# Altium footprint library Beethoven-clock.PcbLib: 36 footprints (part 2 of 3)
Each footprint in its own frame and in the unit in brackets; x right, y up, seen from the top. Pads: shape width x height; smd on the part's side, far side on the other; paste and mask are expansions set on the pad; w line width, h text height; cw(c..) or ccw(c..) is an arc to the next point about the centre after c.
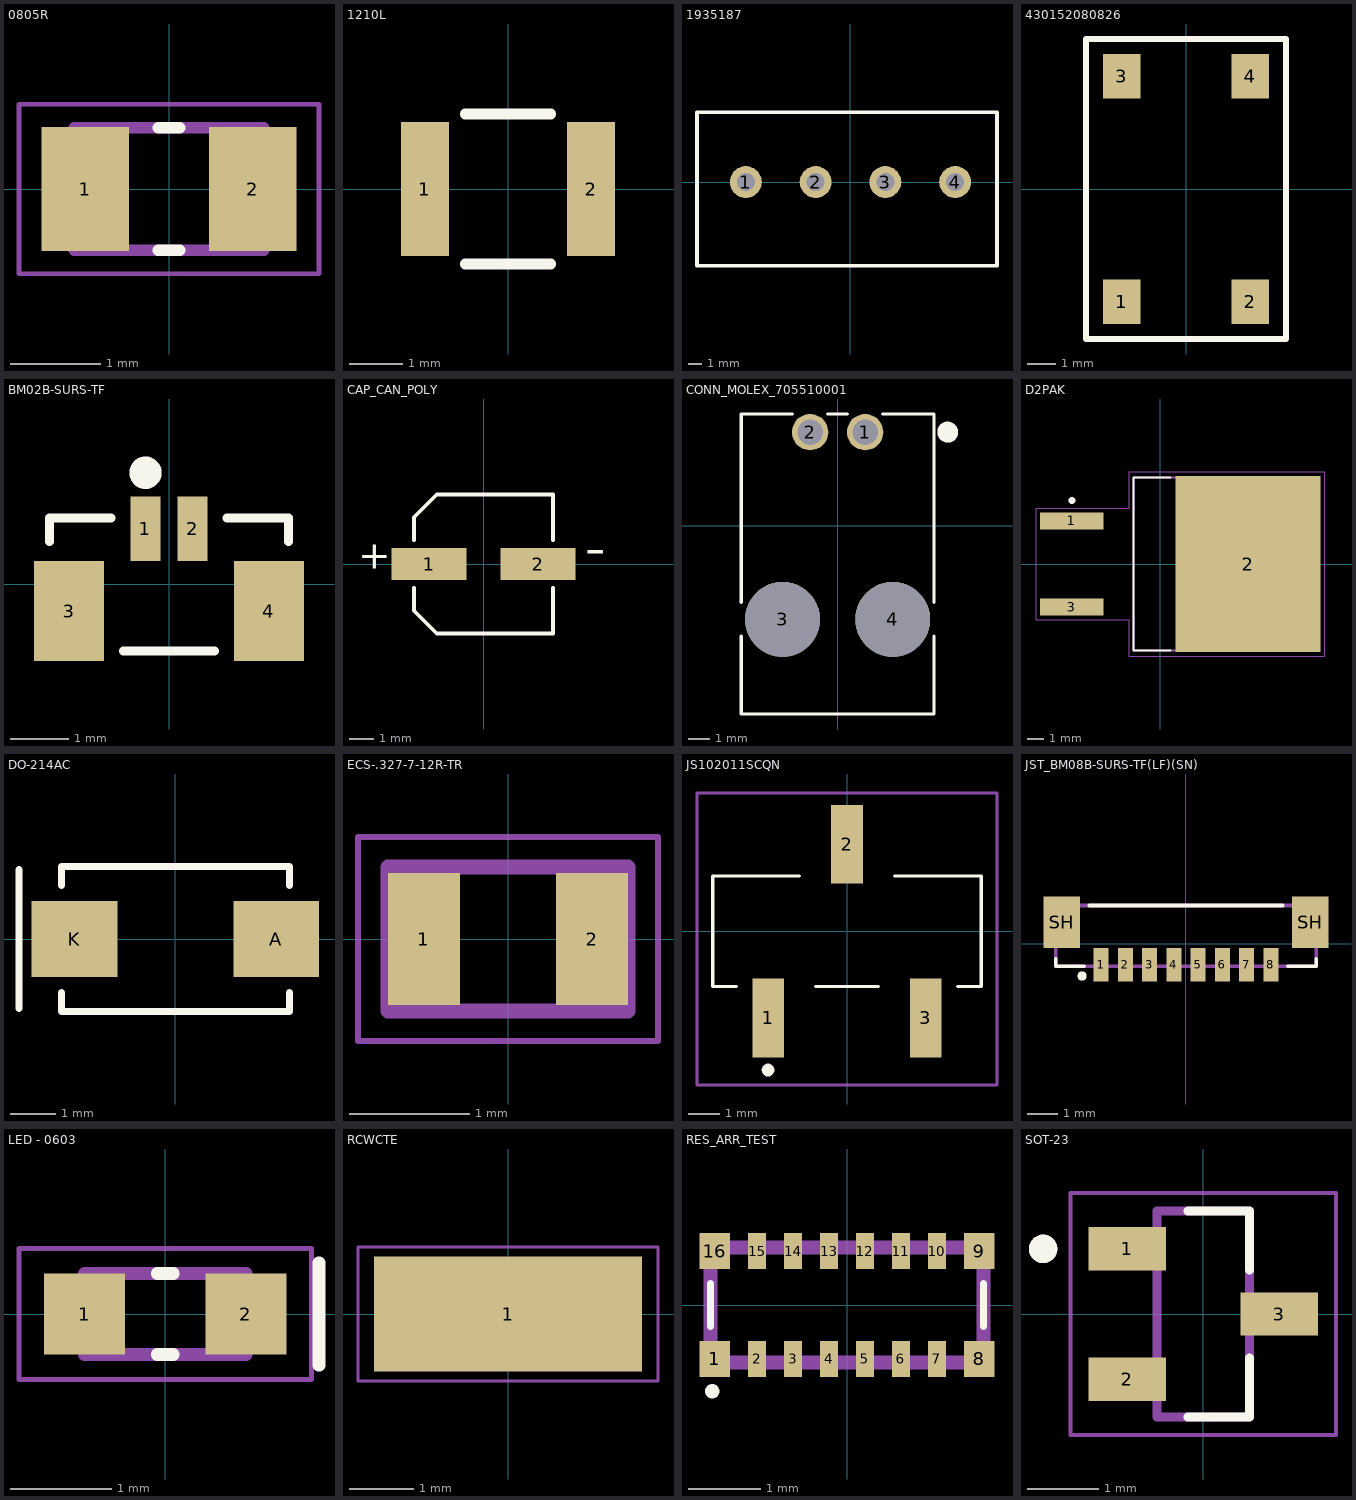
[diagram p1: the footprints below, top view; thin cyan lines are the x and y axes]

## 0805R [mm]
pads (2):
  rect 0.97x1.38 smd: 1(-0.93,0) 2(0.93,0)
Top Overlay:
  lines w0.127: -0.12,-0.68 0.12,-0.68 ; -0.12,0.68 0.12,0.68
Mechanical 13:
  lines w0.127: -1.05,-0.68 1.05,-0.68 1.05,0.68 -1.05,0.68 -1.05,-0.68
Mechanical 15:
  lines w0.05: -1.665,-0.94 1.665,-0.94 1.665,0.94 -1.665,0.94 -1.665,-0.94
3D body "ESR10EZPJ5R1.step": height 0.65, standoff 0, extent -1.051,-0.635 0.949,0.615

## 1210L [mm] "Ceramic Capacitors, body 3.2x2.5mm"
height 2.8
pads (2):
  rect 0.9x2.5 smd: 1(-1.55,0) 2(1.55,0)
Top Overlay:
  lines w0.2: -0.8,-1.4 0.8,-1.4 ; -0.8,1.4 0.8,1.4
3D body "Download_STP_885012xx90xx_rev1.stp": height 1.25, standoff 0, extent -1.6,-1.225 1.6,1.275

## 1935187 [mm]
pads (4):
  round 2.286 hole 1.3: 1(-7.5,0) 2(-2.5,0) 3(2.5,0) 4(7.5,0)
Top Overlay:
  lines w0.254: -11,-6 10.5,-6 10.5,5 -11,5 -11,-6
Mechanical 15:
  lines w0.2: -11,-6 10.5,-6 10.5,5 -11,5 -11,-6
Mechanical 20:
  lines w0.1: -11,-6 10.5,-6 10.5,5 -11,5 -11,-6
3D body "1935187.stp": height 11.44, standoff -3.46, extent -10.013,-4.987 10.557,4.013

## 430152080826 [mm]
pads (4):
  rect 1.3x1.55 smd: 1(-2.25,-3.95) 2(2.25,-3.95) 3(-2.25,3.95) 4(2.25,3.95)
Top Overlay:
  lines w0.2: -3.5,-5.25 -3.5,5.25 3.5,5.25 3.5,-5.25 -3.5,-5.25
3D body "430152095826_Download_STP_430152095826_rev1.stp": height 9.5, standoff 0, extent -3.1,-4.5 3.1,4.5

## BM02B-SURS-TF [mil]
pads (4):
  rect 20x43 smd: 1(-15.75,37.31) 2(15.75,37.31)
  rect 47x67 smd: 3(-66.93,-17.81) 4(66.93,-17.81)
Top Overlay:
  circle w13.78: c-15.75,74.8 r3.94
  lines w6: -80,28.79 -80,44.5 -38.85,44.5 ; -30.33,-44.5 30.33,-44.5 ; 38.85,44.5 80,44.5 80,28.79
3D body: height 106.3, standoff 0, extent -74.8,-39.37 74.8,39.37

## CAP_CAN_POLY [mil]
pads (2):
  rect 122x52 smd paste+0 mask+4: 1(-89,0) 2(89,0)
Top Overlay:
  lines w6: -113.5,-39.1 -113.5,-76.3 ; -113.5,39.1 -113.5,76.3 ; -76.49,113.5 -113.5,76.3 ; -76.3,-113.31 -113.5,-76.3 ; 113.5,-39.1 113.5,-113.5 -76.3,-113.5 -113.5,-76.3 ; 113.5,39.1 113.5,113.5 -76.3,113.5 -113.5,76.3
  text "+" at -205,-23.29 h80
  text "-" at 165,-28.11 h120
3D body "CAP_WCAP-ASLI_05p0X05p5_WRE.step": height 219.09, standoff 0, extent -122.01,-108.5 122.01,108.5

## CONN_MOLEX_705510001 [mil]
pads (4):
  round 66 / inner round 60 / far side round 66 hole 46 paste-99999 mask+0: 1(50,170) 2(-50,170)
  round 136 / inner round 60 / far side round 136 hole 136 unplated paste-99999 mask-68: 3(-100,-170) 4(100,-170)
Top Overlay:
  circle w20: c200,170 r9
  lines w6: -175,-200.86 -175,-342 175,-342 175,-200.86 ; -175,-139.14 -175,203 -82.19,203 ; -17.81,203 17.81,203 ; 82.19,203 175,203 175,-139.14
Bottom Overlay:
  circle w20: c200,170 r9
3D body "705510001.stp": height 276, standoff -149, extent -169.95,-338 169.95,197

## D2PAK [mm]
height 4.6
pads (3):
  rect 3.74x1.02 smd: 1(-5.205,2.54) 3(-5.205,-2.54)
  rect 8.56x10.37 smd paste-6: 2(5.205,0)
Top Overlay:
  circle w0.2: c-5.205,3.75 r0.1
  lines w0.127: 0.612,-5.1 -1.567,-5.1 -1.567,5.1 0.612,5.1
Top Paste:
  region: 9.055,-0.695 7.775,-0.695 7.775,0.695 9.055,0.695
  region: 9.055,1.385 7.775,1.385 7.775,2.775 9.055,2.775
  region: 9.055,3.465 7.775,3.465 7.775,4.855 9.055,4.855
  region: 9.055,-2.775 7.775,-2.775 7.775,-1.385 9.055,-1.385
  region: 9.055,-4.855 7.775,-4.855 7.775,-3.465 9.055,-3.465
  region: 6.915,-0.695 5.635,-0.695 5.635,0.695 6.915,0.695
  region: 6.915,1.385 5.635,1.385 5.635,2.775 6.915,2.775
  region: 6.915,3.465 5.635,3.465 5.635,4.855 6.915,4.855
  region: 6.915,-2.775 5.635,-2.775 5.635,-1.385 6.915,-1.385
  region: 6.915,-4.855 5.635,-4.855 5.635,-3.465 6.915,-3.465
  region: 4.775,-0.695 3.495,-0.695 3.495,0.695 4.775,0.695
  region: 4.775,1.385 3.495,1.385 3.495,2.775 4.775,2.775
  region: 4.775,3.465 3.495,3.465 3.495,4.855 4.775,4.855
  region: 4.775,-2.775 3.495,-2.775 3.495,-1.385 4.775,-1.385
  region: 4.775,-4.855 3.495,-4.855 3.495,-3.465 4.775,-3.465
  region: 2.635,-0.695 1.355,-0.695 1.355,0.695 2.635,0.695
  region: 2.635,1.385 1.355,1.385 1.355,2.775 2.635,2.775
  region: 2.635,3.465 1.355,3.465 1.355,4.855 2.635,4.855
  region: 2.635,-2.775 1.355,-2.775 1.355,-1.385 2.635,-1.385
  region: 2.635,-4.855 1.355,-4.855 1.355,-3.465 2.635,-3.465
Mechanical 13:
  circle w0.2: c-5.205,3.75 r0.1
  lines w0.127: -1.567,-5.1 7.583,-5.1 7.583,5.1 -1.567,5.1 -1.567,-5.1
Mechanical 15:
  lines w0.05: -7.325,-3.3 -1.817,-3.3 -1.817,-5.435 9.735,-5.435 9.735,5.435 -1.817,5.435 -1.817,3.3 -7.325,3.3 -7.325,-3.3
3D body "step_temp.STEP": height 4.6, standoff -0.23, extent -6.507,-5.1 8.918,5.1

## DO-214AC [mil]
pads (2):
  rect 74x66 smd paste+0 mask+0: A(87,0) K(-87,0)
Top Overlay:
  lines w6: -135,-60 -135,60 ; -98.5,-46.1 -98.5,-62.5 98.5,-62.5 98.5,-46.1 ; -98.5,46.1 -98.5,62.5 98.5,62.5 98.5,46.1
3D body "GS1M-LTP.step": height 96.06, standoff 0, extent -102.26,-50.89 102.26,50.89

## ECS-.327-7-12R-TR [mm]
pads (2):
  rect 0.6x1.1 smd: 1(-0.7,0) 2(0.7,0)
Mechanical 13:
  lines w0.127: -1,-0.6 -1,0.6 1,0.6 1,-0.6 -1,-0.6
Mechanical 15:
  lines w0.05: -1.25,-0.85 -1.25,0.85 1.25,0.85 1.25,-0.85 -1.25,-0.85
3D body: height 0.6, standoff 0, extent -1,-0.55 1,0.55

## JS102011SCQN [mm]
pads (3):
  rect 1x2.5 smd: 1(-2.5,-2.75) 2(0,2.75) 3(2.5,-2.75)
Top Overlay:
  lines w0.1: -3.5,-1.75 -4.25,-1.75 -4.25,1.75 -1.5,1.75 ; -1,-1.75 1,-1.75 ; 1.5,1.75 4.25,1.75 4.25,-1.75 3.5,-1.75
  lines w0.2: -2.6,-4.4 cw(c-2.5,-4.4) -2.4,-4.4 cw(c-2.5,-4.4) -2.6,-4.4
Mechanical 15:
  lines w0.1: -4.75,-4.875 4.75,-4.875 4.75,4.375 -4.75,4.375 -4.75,-4.875
3D body "JS102011SCQN_WHITE.step": height 5.52, standoff 0.03, extent -4.25,-3.75 4.25,3.75

## JST_BM08B-SURS-TF(LF)(SN) [mm]
height 2.7
pads (10):
  rect 0.5x1.1 smd mask+0.05: 1(-2.8,-0.7) 2(-2,-0.7) 3(-1.2,-0.7) 4(-0.4,-0.7) 5(0.4,-0.7) 6(1.2,-0.7) 7(2,-0.7) 8(2.8,-0.7)
  rect 1.2x1.7 smd mask+0.05: SH(-4.1,0.7) SH(4.1,0.7)
Top Overlay:
  circle w0.2: c-3.429,-1.071 r0.051
  lines w0.127: -4.3,-0.5 -4.3,-0.75 -3.37,-0.75 ; -3.18,1.25 3.18,1.25 ; 3.37,-0.75 4.3,-0.75 4.3,-0.5
Mechanical 13:
  lines w0.127: -4.3,-0.75 -4.3,1.25 4.3,1.25 4.3,-0.75 -4.3,-0.75
3D body "BM08B-SURS-TF.STEP": height 2.75, standoff 0, extent -4.295,-0.999 4.305,1.251

## LED - 0603 [mm]
pads (2):
  rect 0.8x0.8 smd: 1(-0.8,0) 2(0.8,0)
Top Overlay:
  lines w0.127: -0.08,-0.4 0.08,-0.4 ; -0.08,0.4 0.08,0.4 ; 1.524,-0.508 1.524,0.508
Mechanical 13:
  lines w0.127: -0.8,-0.4 -0.8,0.4 0.8,0.4 0.8,-0.4 -0.8,-0.4
Mechanical 15:
  lines w0.05: -1.45,-0.65 -1.45,0.65 1.45,0.65 1.45,-0.65 -1.45,-0.65
3D body "WL-SMCW SMT LED WURTH ELEKTRONIK 0603.step": height 0.7, standoff 0, extent -0.8,-0.35 0.8,0.35

## RCWCTE [mm]
height 2
pads (1):
  rect 4.2x1.8 smd: 1(0,0)
Mechanical 13:
  lines w0.127: -1.6,-0.8 1.6,-0.8 1.6,0.8 -1.6,0.8 -1.6,-0.8
Mechanical 15:
  lines w0.05: -2.35,-1.05 2.35,-1.05 2.35,1.05 -2.35,1.05 -2.35,-1.05
3D body "step_temp.STEP": height 2.01, standoff 0, extent -1.6,-0.8 1.6,0.8

## RES_ARR_TEST [mm]
pads (16):
  rect 0.425x0.5 smd mask+0.07: 1(-1.837,-0.75) 8(1.837,-0.75) 9(1.837,0.75) 16(-1.837,0.75)
  rect 0.25x0.5 smd mask+0.07: 2(-1.25,-0.75) 3(-0.75,-0.75) 4(-0.25,-0.75) 5(0.25,-0.75) 6(0.75,-0.75) 7(1.25,-0.75) 10(1.25,0.75) 11(0.75,0.75) 12(0.25,0.75) 13(-0.25,0.75) 14(-0.75,0.75) 15(-1.25,0.75)
Top Overlay:
  lines w0.1: -1.9,-0.3 -1.9,0.3 ; 1.9,-0.3 1.9,0.3 ; -1.925,-1.2 ccw(c-1.875,-1.2) -1.825,-1.2 ccw(c-1.875,-1.2) -1.925,-1.2
Mechanical 15:
  lines w0.2: -1.9,-0.8 1.9,-0.8 1.9,0.8 -1.9,0.8 -1.9,-0.8
3D body "EXB-2HV331JV.stp": height 0.65, standoff 0, extent -2.007,-0.975 2.007,0.975

## SOT-23 [mm]
pads (3):
  rect 1.09x0.61 smd: 1(-1.07,0.915) 2(-1.07,-0.915) 3(1.07,0)
Top Overlay:
  circle w0.2: c-2.25,0.915 r0.1
  lines w0.127: -0.212,-1.45 0.65,-1.45 0.65,-0.619 ; -0.212,1.45 0.65,1.45 0.65,0.619
Mechanical 13:
  circle w0.2: c-2.25,0.915 r0.1
  lines w0.127: -0.65,-1.45 -0.65,1.45 0.65,1.45 0.65,-1.45 -0.65,-1.45
Mechanical 15:
  lines w0.05: -1.865,-1.7 -1.865,1.7 1.865,1.7 1.865,-1.7 -1.865,-1.7
3D body "step_temp.STEP": height 1.2, standoff 0, extent -1.2,-1.45 1.2,1.45